# Altium schematic symbol library 74LVX3245WM.SchLib: 1 symbol
Pins are listed as number, name and electrical type; pins without a type are passive.

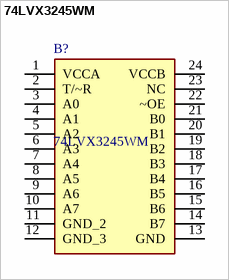
[diagram p0: symbol 74LVX3245WM]

## 74LVX3245WM
designator B?
8 - bit Dual Supply Translating Receiver with 3 state outputs; Manufacturer_Name: onsemi; Manufacturer_Part_Number: 74LVX3245WM; Mouser Part Number: 512-74LVX3245WM; Mouser Price/Stock: https://www.mouser.com/Search/Refine.aspx?Keyword=512-74LVX3245WM; Arrow Part Number: *; Arrow Price/Stock: *; Datasheet Link: *
footprint SOIC127P1032X265-24N
pins: 1 VCCA, 2 T/~R, 3 A0, 4 A1, 5 A2, 6 A3, 7 A4, 8 A5, 9 A6, 10 A7, 11 GND_2, 12 GND_3, 13 GND, 14 B7, 15 B6, 16 B5, 17 B4, 18 B3, 19 B2, 20 B1, 21 B0, 22 ~OE, 23 NC, 24 VCCB